# Altium schematic symbol library LMH6612MAX_NOPB.SchLib: 1 symbol
Pins are listed as number, name and electrical type; pins without a type are passive.

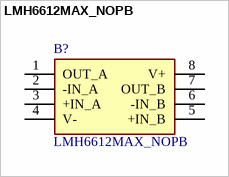
[diagram p0: symbol LMH6612MAX_NOPB]

## LMH6612MAX_NOPB
designator B?
Single Supply, Dual 345 MHz Rail-to-Rail Output Amplifier; Manufacturer_Name: Texas Instruments; Manufacturer_Part_Number: LMH6612MAX/NOPB; Geometry.Height: 1.75mm; Mouser Part Number: 926-LMH6612MAX/NOPB; Mouser Price/Stock: https://www.mouser.co.uk/ProductDetail/Texas-Instruments/LMH6612MAX-NOPB?qs=7lkVKPoqpbYkkjxJnAARvQ%3D%3D; Datasheet Link: http://www.ti.com/lit/gpn/LMH6612
footprint SOIC127P600X175-8N
pins: 1 OUT_A, 2 -IN_A, 3 +IN_A, 4 V-, 5 +IN_B, 6 -IN_B, 7 OUT_B, 8 V+